# EAGLE library part PIC16F1823 (library dp_devices)
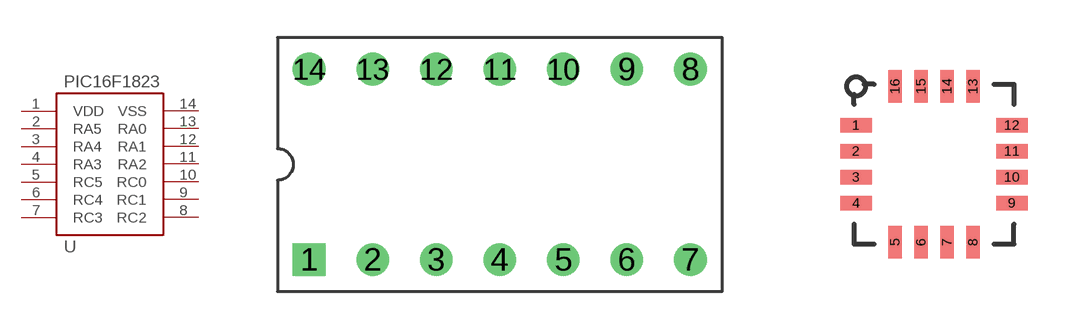
[diagram p43: symbol with the pads of DIP14; footprints DIP14, QFN16_4X4]

Designator prefix -

## PIC16F1823DIL14, PIC16F1823PTHDIL14  [DIP14]
1  VDD
2  RA5
3  RA4
4  RA3
5  RC5
6  RC4
7  RC3
8  RC2
9  RC1
10  RC0
11  RA2
12  RA1
13  RA0
14  VSS

## PIC16F1823QFN16_4X4  [QFN16_4X4]
1  RA5
2  RA4
3  RA3
4  RC5
5  RC4
6  RC3
7  RC2
8  RC1
9  RC0
10  RA2
11  RA1
12  RA0
13  VSS
16  VDD

## Footprint DIP14 (pad centres in mm)
drill 0.8 square: 1 -7.62,-3.81
drill 0.8 round: 2 -5.08,-3.81; 3 -2.54,-3.81; 4 0,-3.81; 5 2.54,-3.81; 6 5.08,-3.81; 7 7.62,-3.81; 8 7.62,3.81; 9 5.08,3.81; 10 2.54,3.81; 11 0,3.81; 12 -2.54,3.81; 13 -5.08,3.81; 14 -7.62,3.81

## Footprint QFN16_4X4 (pad centres in mm)
smd 0.8 x 0.35: 1 -1.95,0.975; 2 -1.95,0.325; 3 -1.95,-0.325; 4 -1.95,-0.975; 9 1.95,-0.975; 10 1.95,-0.325; 11 1.95,0.325; 12 1.95,0.975
smd 0.35 x 0.8: 5 -0.975,-1.95; 6 -0.325,-1.95; 7 0.325,-1.95; 8 0.975,-1.95; 13 0.975,1.95; 14 0.325,1.95; 15 -0.325,1.95; 16 -0.975,1.95